# Altium schematic symbol library SCH - MCU - RENESAS - RENESAS R7FS7G27XXXXXXLK 145LGA.SchLib: 1 symbol
Pins are listed as number, name and electrical type; pins without a type are passive.

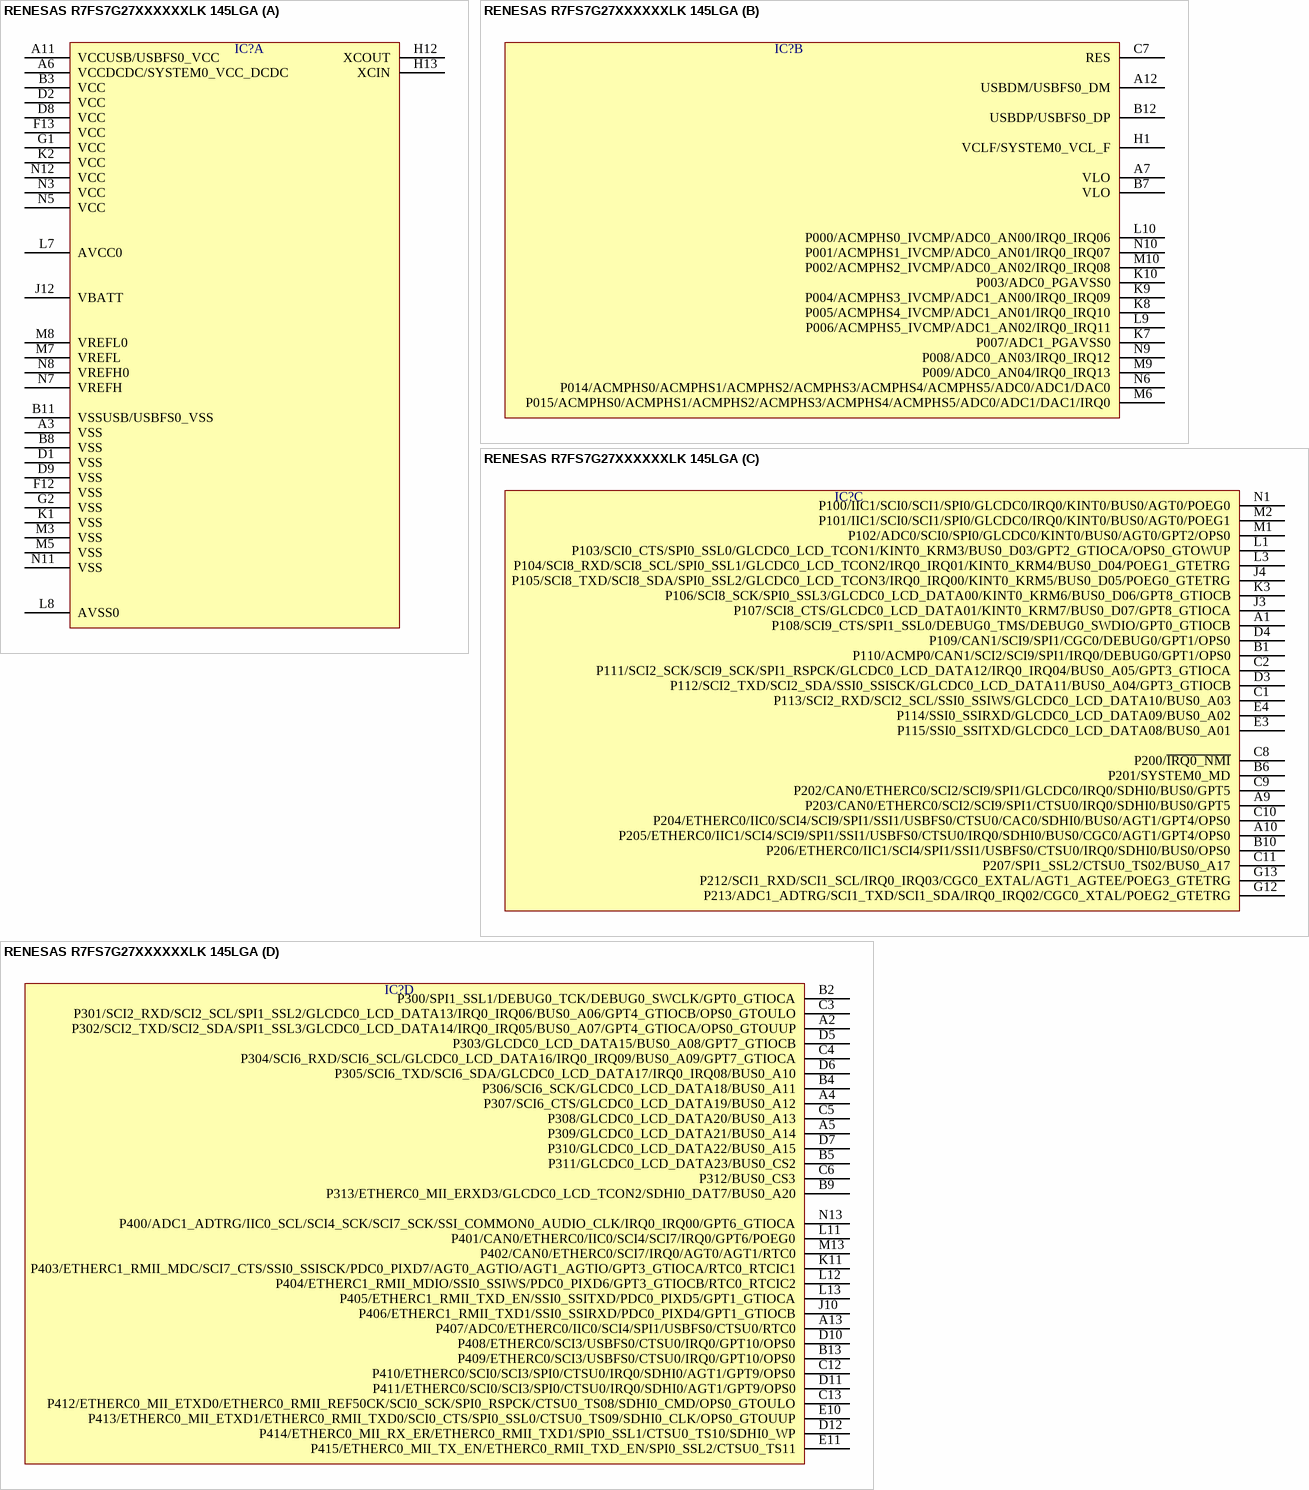
[diagram p0: symbol RENESAS R7FS7G27XXXXXXLK 145LGA]

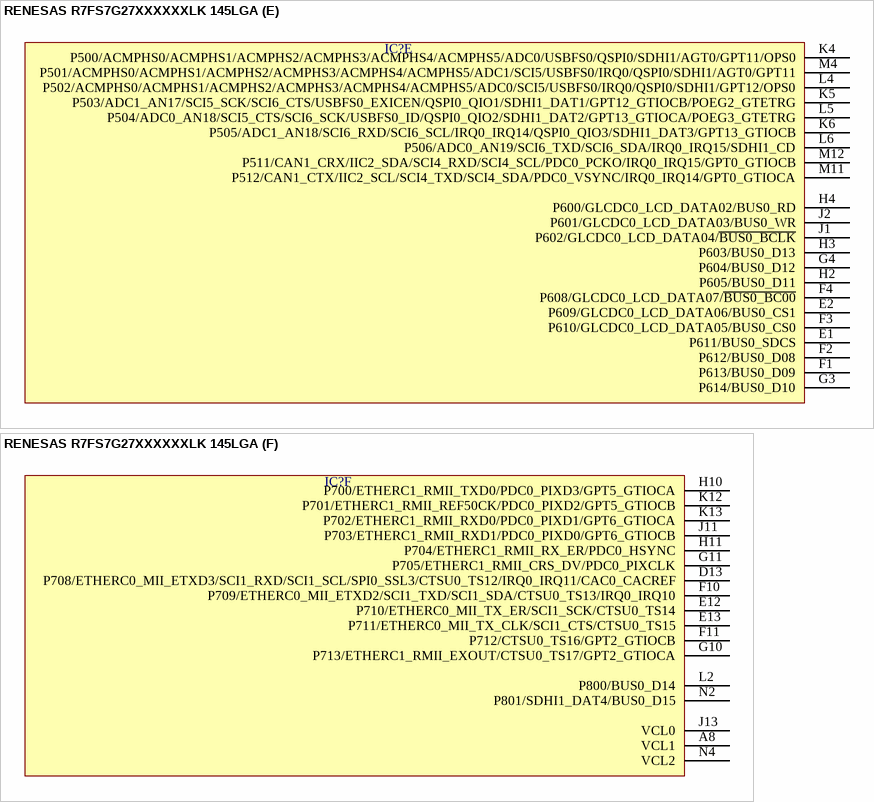
[diagram p1: symbol RENESAS R7FS7G27XXXXXXLK 145LGA]

## RENESAS R7FS7G27XXXXXXLK 145LGA
designator IC?  (value not drawn)
part A pins: A3 VSS, A6 VCCDCDC/SYSTEM0_VCC_DCDC, A11 VCCUSB/USBFS0_VCC, B3 VCC, B8 VSS, B11 VSSUSB/USBFS0_VSS, D1 VSS, D2 VCC, D8 VCC, D9 VSS, F12 VSS, F13 VCC, G1 VCC, G2 VSS, H12 XCOUT, H13 XCIN, J12 VBATT, K1 VSS, K2 VCC, L7 AVCC0, L8 AVSS0, M3 VSS, M5 VSS, M7 VREFL, M8 VREFL0, N3 VCC, N5 VCC, N7 VREFH, N8 VREFH0, N11 VSS, N12 VCC
part B pins: A7 VLO, A12 USBDM/USBFS0_DM, B7 VLO, B12 USBDP/USBFS0_DP, C7 RES, H1 VCLF/SYSTEM0_VCL_F, K7 P007/ADC1_PGAVSS0, K8 P005/ACMPHS4_IVCMP/ADC1_AN01/IRQ0_IRQ10, K9 P004/ACMPHS3_IVCMP/ADC1_AN00/IRQ0_IRQ09, K10 P003/ADC0_PGAVSS0, L9 P006/ACMPHS5_IVCMP/ADC1_AN02/IRQ0_IRQ11, L10 P000/ACMPHS0_IVCMP/ADC0_AN00/IRQ0_IRQ06, M6 P015/ACMPHS0/ACMPHS1/ACMPHS2/ACMPHS3/ACMPHS4/ACMPHS5/ADC0/ADC1/DAC1/IRQ0, M9 P009/ADC0_AN04/IRQ0_IRQ13, M10 P002/ACMPHS2_IVCMP/ADC0_AN02/IRQ0_IRQ08, N6 P014/ACMPHS0/ACMPHS1/ACMPHS2/ACMPHS3/ACMPHS4/ACMPHS5/ADC0/ADC1/DAC0, N9 P008/ADC0_AN03/IRQ0_IRQ12, N10 P001/ACMPHS1_IVCMP/ADC0_AN01/IRQ0_IRQ07
part C pins: A1 P108/SCI9_CTS/SPI1_SSL0/DEBUG0_TMS/DEBUG0_SWDIO/GPT0_GTIOCB, A9 P203/CAN0/ETHERC0/SCI2/SCI9/SPI1/CTSU0/IRQ0/SDHI0/BUS0/GPT5, A10 P205/ETHERC0/IIC1/SCI4/SCI9/SPI1/SSI1/USBFS0/CTSU0/IRQ0/SDHI0/BUS0/CGC0/AGT1/GPT4/OPS0, B1 P110/ACMP0/CAN1/SCI2/SCI9/SPI1/IRQ0/DEBUG0/GPT1/OPS0, B6 P201/SYSTEM0_MD, B10 P206/ETHERC0/IIC1/SCI4/SPI1/SSI1/USBFS0/CTSU0/IRQ0/SDHI0/BUS0/OPS0, C1 P113/SCI2_RXD/SCI2_SCL/SSI0_SSIWS/GLCDC0_LCD_DATA10/BUS0_A03, C2 P111/SCI2_SCK/SCI9_SCK/SPI1_RSPCK/GLCDC0_LCD_DATA12/IRQ0_IRQ04/BUS0_A05/GPT3_GTIOCA, C8 P200/~{IRQ0_NMI}, C9 P202/CAN0/ETHERC0/SCI2/SCI9/SPI1/GLCDC0/IRQ0/SDHI0/BUS0/GPT5, C10 P204/ETHERC0/IIC0/SCI4/SCI9/SPI1/SSI1/USBFS0/CTSU0/CAC0/SDHI0/BUS0/AGT1/GPT4/OPS0, C11 P207/SPI1_SSL2/CTSU0_TS02/BUS0_A17, D3 P112/SCI2_TXD/SCI2_SDA/SSI0_SSISCK/GLCDC0_LCD_DATA11/BUS0_A04/GPT3_GTIOCB, D4 P109/CAN1/SCI9/SPI1/CGC0/DEBUG0/GPT1/OPS0, E3 P115/SSI0_SSITXD/GLCDC0_LCD_DATA08/BUS0_A01, E4 P114/SSI0_SSIRXD/GLCDC0_LCD_DATA09/BUS0_A02, G12 P213/ADC1_ADTRG/SCI1_TXD/SCI1_SDA/IRQ0_IRQ02/CGC0_XTAL/POEG2_GTETRG, G13 P212/SCI1_RXD/SCI1_SCL/IRQ0_IRQ03/CGC0_EXTAL/AGT1_AGTEE/POEG3_GTETRG, J3 P107/SCI8_CTS/GLCDC0_LCD_DATA01/KINT0_KRM7/BUS0_D07/GPT8_GTIOCA, J4 P105/SCI8_TXD/SCI8_SDA/SPI0_SSL2/GLCDC0_LCD_TCON3/IRQ0_IRQ00/KINT0_KRM5/BUS0_D05/POEG0_GTETRG, K3 P106/SCI8_SCK/SPI0_SSL3/GLCDC0_LCD_DATA00/KINT0_KRM6/BUS0_D06/GPT8_GTIOCB, L1 P103/SCI0_CTS/SPI0_SSL0/GLCDC0_LCD_TCON1/KINT0_KRM3/BUS0_D03/GPT2_GTIOCA/OPS0_GTOWUP, L3 P104/SCI8_RXD/SCI8_SCL/SPI0_SSL1/GLCDC0_LCD_TCON2/IRQ0_IRQ01/KINT0_KRM4/BUS0_D04/POEG1_GTETRG, M1 P102/ADC0/SCI0/SPI0/GLCDC0/KINT0/BUS0/AGT0/GPT2/OPS0, M2 P101/IIC1/SCI0/SCI1/SPI0/GLCDC0/IRQ0/KINT0/BUS0/AGT0/POEG1, N1 P100/IIC1/SCI0/SCI1/SPI0/GLCDC0/IRQ0/KINT0/BUS0/AGT0/POEG0
part D pins: A2 P302/SCI2_TXD/SCI2_SDA/SPI1_SSL3/GLCDC0_LCD_DATA14/IRQ0_IRQ05/BUS0_A07/GPT4_GTIOCA/OPS0_GTOUUP, A4 P307/SCI6_CTS/GLCDC0_LCD_DATA19/BUS0_A12, A5 P309/GLCDC0_LCD_DATA21/BUS0_A14, A13 P407/ADC0/ETHERC0/IIC0/SCI4/SPI1/USBFS0/CTSU0/RTC0, B2 P300/SPI1_SSL1/DEBUG0_TCK/DEBUG0_SWCLK/GPT0_GTIOCA, B4 P306/SCI6_SCK/GLCDC0_LCD_DATA18/BUS0_A11, B5 P311/GLCDC0_LCD_DATA23/BUS0_CS2, B9 P313/ETHERC0_MII_ERXD3/GLCDC0_LCD_TCON2/SDHI0_DAT7/BUS0_A20, B13 P409/ETHERC0/SCI3/USBFS0/CTSU0/IRQ0/GPT10/OPS0, C3 P301/SCI2_RXD/SCI2_SCL/SPI1_SSL2/GLCDC0_LCD_DATA13/IRQ0_IRQ06/BUS0_A06/GPT4_GTIOCB/OPS0_GTOULO, C4 P304/SCI6_RXD/SCI6_SCL/GLCDC0_LCD_DATA16/IRQ0_IRQ09/BUS0_A09/GPT7_GTIOCA, C5 P308/GLCDC0_LCD_DATA20/BUS0_A13, C6 P312/BUS0_CS3, C12 P410/ETHERC0/SCI0/SCI3/SPI0/CTSU0/IRQ0/SDHI0/AGT1/GPT9/OPS0, C13 P412/ETHERC0_MII_ETXD0/ETHERC0_RMII_REF50CK/SCI0_SCK/SPI0_RSPCK/CTSU0_TS08/SDHI0_CMD/OPS0_GTOULO, D5 P303/GLCDC0_LCD_DATA15/BUS0_A08/GPT7_GTIOCB, D6 P305/SCI6_TXD/SCI6_SDA/GLCDC0_LCD_DATA17/IRQ0_IRQ08/BUS0_A10, D7 P310/GLCDC0_LCD_DATA22/BUS0_A15, D10 P408/ETHERC0/SCI3/USBFS0/CTSU0/IRQ0/GPT10/OPS0, D11 P411/ETHERC0/SCI0/SCI3/SPI0/CTSU0/IRQ0/SDHI0/AGT1/GPT9/OPS0, D12 P414/ETHERC0_MII_RX_ER/ETHERC0_RMII_TXD1/SPI0_SSL1/CTSU0_TS10/SDHI0_WP, E10 P413/ETHERC0_MII_ETXD1/ETHERC0_RMII_TXD0/SCI0_CTS/SPI0_SSL0/CTSU0_TS09/SDHI0_CLK/OPS0_GTOUUP, E11 P415/ETHERC0_MII_TX_EN/ETHERC0_RMII_TXD_EN/SPI0_SSL2/CTSU0_TS11, J10 P406/ETHERC1_RMII_TXD1/SSI0_SSIRXD/PDC0_PIXD4/GPT1_GTIOCB, K11 P403/ETHERC1_RMII_MDC/SCI7_CTS/SSI0_SSISCK/PDC0_PIXD7/AGT0_AGTIO/AGT1_AGTIO/GPT3_GTIOCA/RTC0_RTCIC1, L11 P401/CAN0/ETHERC0/IIC0/SCI4/SCI7/IRQ0/GPT6/POEG0, L12 P404/ETHERC1_RMII_MDIO/SSI0_SSIWS/PDC0_PIXD6/GPT3_GTIOCB/RTC0_RTCIC2, L13 P405/ETHERC1_RMII_TXD_EN/SSI0_SSITXD/PDC0_PIXD5/GPT1_GTIOCA, M13 P402/CAN0/ETHERC0/SCI7/IRQ0/AGT0/AGT1/RTC0, N13 P400/ADC1_ADTRG/IIC0_SCL/SCI4_SCK/SCI7_SCK/SSI_COMMON0_AUDIO_CLK/IRQ0_IRQ00/GPT6_GTIOCA
part E pins: E1 P611/BUS0_SDCS, E2 P609/GLCDC0_LCD_DATA06/BUS0_CS1, F1 P613/BUS0_D09, F2 P612/BUS0_D08, F3 P610/GLCDC0_LCD_DATA05/BUS0_CS0, F4 P608/GLCDC0_LCD_DATA07/~{BUS0_BC00}, G3 P614/BUS0_D10, G4 P604/BUS0_D12, H2 P605/BUS0_D11, H3 P603/BUS0_D13, H4 P600/GLCDC0_LCD_DATA02/BUS0_RD, J1 P602/GLCDC0_LCD_DATA04/~{BUS0_BCLK}, J2 P601/GLCDC0_LCD_DATA03/BUS0_WR, K4 P500/ACMPHS0/ACMPHS1/ACMPHS2/ACMPHS3/ACMPHS4/ACMPHS5/ADC0/USBFS0/QSPI0/SDHI1/AGT0/GPT11/OPS0, K5 P503/ADC1_AN17/SCI5_SCK/SCI6_CTS/USBFS0_EXICEN/QSPI0_QIO1/SDHI1_DAT1/GPT12_GTIOCB/POEG2_GTETRG, K6 P505/ADC1_AN18/SCI6_RXD/SCI6_SCL/IRQ0_IRQ14/QSPI0_QIO3/SDHI1_DAT3/GPT13_GTIOCB, L4 P502/ACMPHS0/ACMPHS1/ACMPHS2/ACMPHS3/ACMPHS4/ACMPHS5/ADC0/SCI5/USBFS0/IRQ0/QSPI0/SDHI1/GPT12/OPS0, L5 P504/ADC0_AN18/SCI5_CTS/SCI6_SCK/USBFS0_ID/QSPI0_QIO2/SDHI1_DAT2/GPT13_GTIOCA/POEG3_GTETRG, L6 P506/ADC0_AN19/SCI6_TXD/SCI6_SDA/IRQ0_IRQ15/SDHI1_CD, M4 P501/ACMPHS0/ACMPHS1/ACMPHS2/ACMPHS3/ACMPHS4/ACMPHS5/ADC1/SCI5/USBFS0/IRQ0/QSPI0/SDHI1/AGT0/GPT11, M11 P512/CAN1_CTX/IIC2_SCL/SCI4_TXD/SCI4_SDA/PDC0_VSYNC/IRQ0_IRQ14/GPT0_GTIOCA, M12 P511/CAN1_CRX/IIC2_SDA/SCI4_RXD/SCI4_SCL/PDC0_PCKO/IRQ0_IRQ15/GPT0_GTIOCB
part F pins: A8 VCL1, D13 P708/ETHERC0_MII_ETXD3/SCI1_RXD/SCI1_SCL/SPI0_SSL3/CTSU0_TS12/IRQ0_IRQ11/CAC0_CACREF, E12 P710/ETHERC0_MII_TX_ER/SCI1_SCK/CTSU0_TS14, E13 P711/ETHERC0_MII_TX_CLK/SCI1_CTS/CTSU0_TS15, F10 P709/ETHERC0_MII_ETXD2/SCI1_TXD/SCI1_SDA/CTSU0_TS13/IRQ0_IRQ10, F11 P712/CTSU0_TS16/GPT2_GTIOCB, G10 P713/ETHERC1_RMII_EXOUT/CTSU0_TS17/GPT2_GTIOCA, G11 P705/ETHERC1_RMII_CRS_DV/PDC0_PIXCLK, H10 P700/ETHERC1_RMII_TXD0/PDC0_PIXD3/GPT5_GTIOCA, H11 P704/ETHERC1_RMII_RX_ER/PDC0_HSYNC, J11 P703/ETHERC1_RMII_RXD1/PDC0_PIXD0/GPT6_GTIOCB, J13 VCL0, K12 P701/ETHERC1_RMII_REF50CK/PDC0_PIXD2/GPT5_GTIOCB, K13 P702/ETHERC1_RMII_RXD0/PDC0_PIXD1/GPT6_GTIOCA, L2 P800/BUS0_D14, N2 P801/SDHI1_DAT4/BUS0_D15, N4 VCL2